# Altium footprint library PcbLib_Lenobitech.PcbLib: 14 footprints
Each footprint in its own frame and in the unit in brackets; x right, y up, seen from the top. Pads: shape width x height; smd on the part's side, far side on the other; paste and mask are expansions set on the pad; w line width, h text height; cw(c..) or ccw(c..) is an arc to the next point about the centre after c.
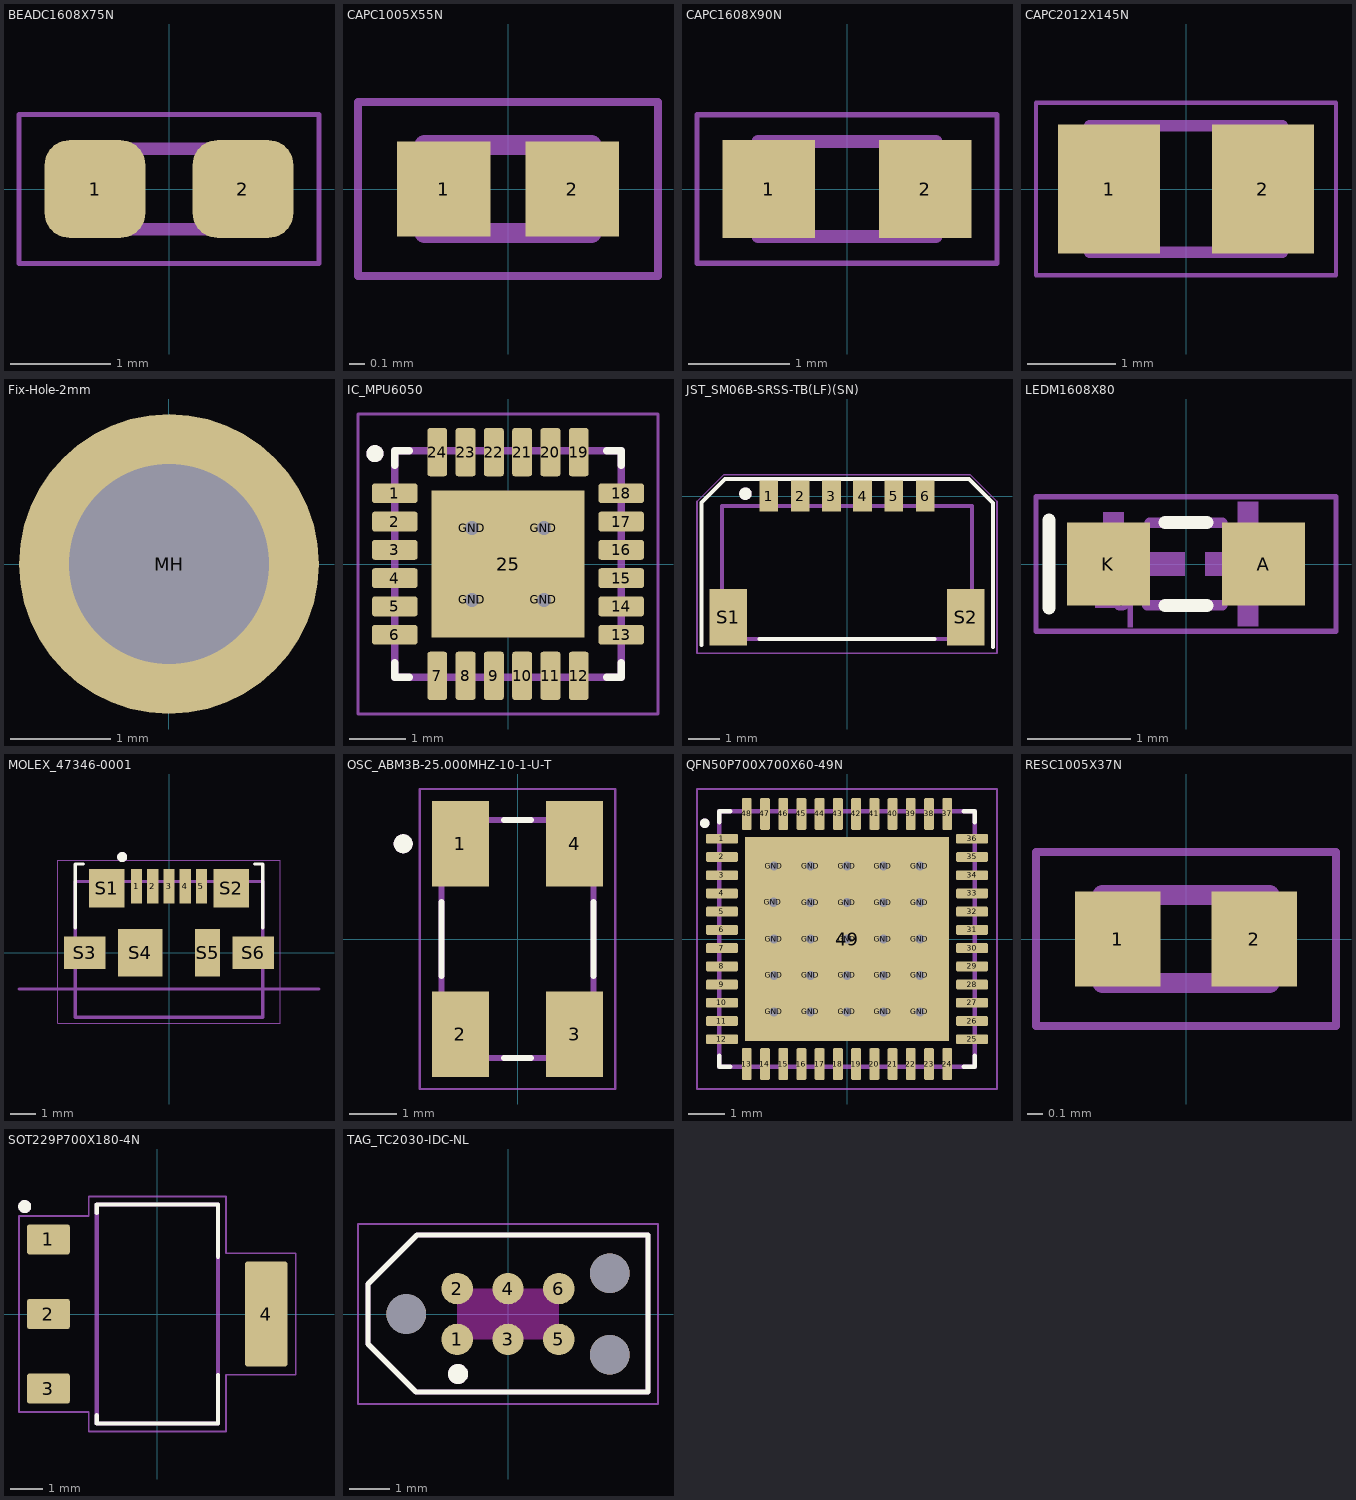
[diagram p0: the footprints below, top view; thin cyan lines are the x and y axes]

## BEADC1608X75N [mm]
pads (2):
  rrect50% 1x0.97 smd: 1(-0.735,0) 2(0.735,0)
Mechanical 13:
  lines w0.127: -0.8,-0.4 0.8,-0.4 0.8,0.4 -0.8,0.4 -0.8,-0.4
Mechanical 15:
  lines w0.05: -1.49,-0.74 1.49,-0.74 1.49,0.74 -1.49,0.74 -1.49,-0.74
3D body "step_temp.STEP": height 0.95, standoff 0, extent -0.8,-0.4 0.8,0.4

## CAPC1005X55N [mm]
pads (2):
  rect 0.59x0.6 smd: 1(-0.407,0) 2(0.407,0)
Mechanical 13:
  lines w0.127: -0.53,-0.28 -0.53,0.28 0.53,0.28 0.53,-0.28 -0.53,-0.28
Mechanical 15:
  lines w0.05: -0.95,-0.55 -0.95,0.55 0.95,0.55 0.95,-0.55 -0.95,-0.55
3D body "C0402C104K4RAC7411.STEP": height 0.51, standoff 0.01, extent -0.508,-0.275 0.492,0.275

## CAPC1608X90N [mm]
pads (2):
  rect 0.92x0.97 smd: 1(-0.775,0) 2(0.775,0)
Mechanical 13:
  lines w0.127: -0.88,-0.47 -0.88,0.47 0.88,0.47 0.88,-0.47 -0.88,-0.47
Mechanical 15:
  lines w0.05: -1.485,-0.735 -1.485,0.735 1.485,0.735 1.485,-0.735 -1.485,-0.735
3D body "C0603C225K4PACTU.STEP": height 0.81, standoff 0.01, extent -0.838,-0.475 0.762,0.475

## CAPC2012X145N [mm]
pads (2):
  rect 1.16x1.47 smd: 1(-0.875,0) 2(0.875,0)
Mechanical 13:
  lines w0.127: -1.1,-0.72 -1.1,0.72 1.1,0.72 1.1,-0.72 -1.1,-0.72
Mechanical 15:
  lines w0.05: -1.708,-0.983 -1.708,0.983 1.708,0.983 1.708,-0.983 -1.708,-0.983
3D body "C0805C226M8PAC7800.STEP": height 1.26, standoff 0.01, extent -1,-0.725 1,0.725

## Fix-Hole-2mm [mm]
pads (1):
  round 3 hole 2 mask+0.076: MH(0,0)
Bottom Solder:
  circle w0.5: c0,0 r1.25

## IC_MPU6050 [mm]
pads (29):
  rrect25% 0.8x0.35 smd: 1(-2,1.25) 2(-2,0.75) 3(-2,0.25) 4(-2,-0.25) 5(-2,-0.75) 6(-2,-1.25) 13(2,-1.25) 14(2,-0.75) 15(2,-0.25) 16(2,0.25) 17(2,0.75) 18(2,1.25)
  rrect25% 0.35x0.85 smd: 7(-1.25,-1.975) 8(-0.75,-1.975) 9(-0.25,-1.975) 10(0.25,-1.975) 11(0.75,-1.975) 12(1.25,-1.975) 19(1.25,1.975) 20(0.75,1.975) 21(0.25,1.975) 22(-0.25,1.975) 23(-0.75,1.975) 24(-1.25,1.975)
  rect 2.7x2.6 smd paste-2: 25(0,0)
  round 0.5 hole 0.254: GND(-0.635,-0.635) GND(-0.635,0.635) GND(0.635,-0.635) GND(0.635,0.635)
Top Overlay:
  circle w0.2: c-2.35,1.95 r0.05
  lines w0.127: -2,-1.739 -2,-2 -1.739,-2 ; -2,1.739 -2,2 -1.739,2 ; 1.739,-2 2,-2 2,-1.739 ; 1.739,2 2,2 2,1.739
Top Paste:
  region: 0.854,-0.822 -0.854,-0.822 -0.854,0.822 0.854,0.822
Mechanical 13:
  circle w0.2: c-2.35,1.95 r0.05
  lines w0.127: -2,-2 -2,2 2,2 2,-2 -2,-2
Mechanical 15:
  lines w0.05: -2.65,-2.65 -2.65,2.65 2.65,2.65 2.65,-2.65 -2.65,-2.65
3D body "MPU6050.STEP": height 0.94, standoff -0.01, extent -2,-2 2,2

## JST_SM06B-SRSS-TB(LF)(SN) [mm]
pads (8):
  rect 0.6x1 smd: 1(-2.5,0) 2(-1.5,0) 3(-0.5,0) 4(0.5,0) 5(1.5,0) 6(2.5,0)
  rect 1.2x1.8 smd: S1(-3.8,-3.875) S2(3.8,-3.875)
Top Overlay:
  circle w0.2: c-3.25,0.075 r0.1
  lines w0.127: -4.65,-4.775 -4.65,-0.2 -3.9,0.55 3.9,0.55 4.65,-0.2 ; -2.8,-4.575 2.8,-4.575 ; 4.675,-4.825 4.675,-0.225
Mechanical 13:
  circle w0.2: c-3.25,0.075 r0.1
  lines w0.127: -4,-4.575 -4,-0.325 4,-0.325 4,-4.575 -4,-4.575
Mechanical 15:
  lines w0.05: -4.8,-5.025 4.8,-5.025 4.8,-0.175 3.95,0.675 -3.95,0.675 -4.8,-0.175 -4.8,-5.025
3D body "SM06B-SRSS-TB-LF--SN---3DModel-STEP-56544.STEP": height 2.91, standoff -0.04, extent -4,-4.725 4,0.225

## LEDM1608X80 [mm]
pads (2):
  rect 0.8x0.8 smd: A(0.75,0) K(-0.75,0)
Top Overlay:
  lines w0.127: -1.325,-0.425 -1.325,0.425 ; -0.2,-0.4 0.2,-0.4 ; -0.2,0.4 0.2,0.4
Mechanical 13:
  circle w0.051: c-0.625,-0.35 r0.075
  region: -0.675,-0.425 -0.875,-0.425 -0.875,-0.275 -0.675,-0.275
  region: -0.55,-0.275 -0.6,-0.275 -0.6,-0.225 -0.55,-0.225
  region: -0.513,-0.613 -0.563,-0.613 -0.563,-0.238 -0.513,-0.238
  region: -0.6,0.2 -0.8,0.2 -0.8,0.5 -0.6,0.5
  region: -0.012,-0.112 -0.913,-0.112 -0.913,0.112 -0.012,0.112
  region: 0.7,-0.6 0.5,-0.6 0.5,-0.1 0.7,-0.1
  region: 0.7,0.1 0.5,0.1 0.5,0.6 0.7,0.6
  region: 0.737,-0.112 0.188,-0.112 0.188,0.112 0.737,0.112
  region: 0.65,-0.275 0.55,-0.275 0.55,-0.175 0.65,-0.175
  region: 0.65,0.175 0.55,0.175 0.55,0.275 0.65,0.275
  lines w0.051: 0.825,-0.275 cw(c0.825,0) 0.825,0.275
  lines w0.102: -0.8,-0.3 ccw(c-0.826,0) -0.8,0.3 ; -0.375,-0.4 0.35,-0.4 ; -0.35,0.4 0.35,0.4
Mechanical 15:
  lines w0.05: -1.45,-0.65 1.45,-0.65 1.45,0.65 -1.45,0.65 -1.45,-0.65
3D body "HSMS-C190.STEP": height 1.01, standoff 0.01, extent -0.8,-0.3 0.8,0.3

## MOLEX_47346-0001 [mm]
pads (11):
  rect 0.45x1.38 smd: 1(-1.3,2.66) 2(-0.65,2.66) 3(0,2.66) 4(0.65,2.66) 5(1.3,2.66)
  rect 1.425x1.55 smd: S1(-2.488,2.575) S2(2.488,2.575)
  rect 1.65x1.3 smd: S3(-3.375,0) S6(3.375,0)
  rect 1.8x1.9 smd: S4(-1.15,0)
  rect 1x1.9 smd: S5(1.55,0)
Top Overlay:
  circle w0.2: c-1.875,3.825 r0.1
  lines w0.127: -3.75,1 -3.75,3.55 -3.425,3.55 ; 3.425,3.55 3.75,3.55 3.75,1
Mechanical 13:
  circle w0.2: c-1.875,3.825 r0.1
  lines w0.127: -6,-1.45 6,-1.45 ; -3.75,-2.58 -3.75,2.85 3.75,2.85 3.75,-2.58 -3.75,-2.58
  text "PCB EDGE" at 4.5,-1.25 h0.41
Mechanical 15:
  lines w0.05: -4.45,-2.83 -4.45,3.7 4.45,3.7 4.45,-2.83 -4.45,-2.83
3D body "47346-0001--3DModel-STEP-1.STEP": height 2.7, standoff -0.25, extent -4.18,-2.53 4.18,2.9

## OSC_ABM3B-25.000MHZ-10-1-U-T [mm]
pads (4):
  rect 1.2x1.8 smd: 1(-1.2,2) 2(-1.2,-2) 3(1.2,-2) 4(1.2,2)
Top Overlay:
  circle w0.2: c-2.4,2 r0.1
  lines w0.127: -1.6,-0.78 -1.6,0.78 ; -0.28,-2.5 0.28,-2.5 ; -0.28,2.5 0.28,2.5 ; 1.6,-0.78 1.6,0.78
Mechanical 13:
  circle w0.2: c-2.4,2 r0.1
  lines w0.127: -1.6,-2.5 1.6,-2.5 1.6,2.5 -1.6,2.5 -1.6,-2.5
Mechanical 15:
  lines w0.05: -2.05,-3.15 2.05,-3.15 2.05,3.15 -2.05,3.15 -2.05,-3.15
3D body "ABM3B-25.000MHZ-10-1-U-T.STEP": height 1.1, standoff 0, extent -1.6,-2.5 1.6,2.5

## QFN50P700X700X60-49N [mm]
pads (74):
  rrect25% 0.87x0.27 smd: 1(-3.43,2.75) 2(-3.43,2.25) 3(-3.43,1.75) 4(-3.43,1.25) 5(-3.43,0.75) 6(-3.43,0.25) 7(-3.43,-0.25) 8(-3.43,-0.75) 9(-3.43,-1.25) 10(-3.43,-1.75) 11(-3.43,-2.25) 12(-3.43,-2.75) 25(3.43,-2.75) 26(3.43,-2.25) 27(3.43,-1.75) 28(3.43,-1.25) 29(3.43,-0.75) 30(3.43,-0.25) 31(3.43,0.25) 32(3.43,0.75) 33(3.43,1.25) 34(3.43,1.75) 35(3.43,2.25) 36(3.43,2.75)
  rrect25% 0.27x0.87 smd: 13(-2.75,-3.43) 14(-2.25,-3.43) 15(-1.75,-3.43) 16(-1.25,-3.43) 17(-0.75,-3.43) 18(-0.25,-3.43) 19(0.25,-3.43) 20(0.75,-3.43) 21(1.25,-3.43) 22(1.75,-3.43) 23(2.25,-3.43) 24(2.75,-3.43) 37(2.75,3.43) 38(2.25,3.43) 39(1.75,3.43) 40(1.25,3.43) 41(0.75,3.43) 42(0.25,3.43) 43(-0.25,3.43) 44(-0.75,3.43) 45(-1.25,3.43) 46(-1.75,3.43) 47(-2.25,3.43) 48(-2.75,3.43)
  rect 5.6x5.6 smd paste-4: 49(0,0)
  round 0.5 hole 0.254: GND(-2.018,1.008) GND(-2,-2) GND(-2,-1) GND(-2,0) GND(-2,2) GND(-1,-2) GND(-1,-1) GND(-1,0) GND(-1,1) GND(-1,2) GND(0,-2) GND(0,-1) GND(0,0) GND(0,1) GND(0,2) GND(1,-2) GND(1,-1) GND(1,0) GND(1,1) GND(1,2) GND(2,-2) GND(2,-1) GND(2,0) GND(2,1) GND(2,2)
Top Overlay:
  circle w0.2: c-3.9,3.175 r0.03
  lines w0.127: -3.5,-3.205 -3.5,-3.5 -3.205,-3.5 ; -3.5,3.205 -3.5,3.5 -3.205,3.5 ; 3.205,-3.5 3.5,-3.5 3.5,-3.205 ; 3.205,3.5 3.5,3.5 3.5,3.205
Top Paste:
  region: 2.29,-2.29 0.51,-2.29 0.51,-0.51 2.29,-0.51
  region: -0.51,-2.29 -2.29,-2.29 -2.29,-0.51 -0.51,-0.51
  region: 2.29,0.51 0.51,0.51 0.51,2.29 2.29,2.29
  region: -0.51,0.51 -2.29,0.51 -2.29,2.29 -0.51,2.29
Mechanical 13:
  circle w0.2: c-3.9,3.175 r0.03
  lines w0.127: -3.5,-3.5 -3.5,3.5 3.5,3.5 3.5,-3.5 -3.5,-3.5
Mechanical 15:
  lines w0.05: -4.115,-4.115 -4.115,4.115 4.115,4.115 4.115,-4.115 -4.115,-4.115
3D body "STM32F411CEU6--3DModel-STEP-56544.STEP": height 0.6, standoff 0, extent -3.5,-3.5 3.5,3.5

## RESC1005X37N [mm]
pads (2):
  rect 0.54x0.6 smd: 1(-0.432,0) 2(0.432,0)
Mechanical 13:
  lines w0.127: -0.53,-0.28 0.53,-0.28 0.53,0.28 -0.53,0.28 -0.53,-0.28
Mechanical 15:
  lines w0.05: -0.95,-0.55 0.95,-0.55 0.95,0.55 -0.95,0.55 -0.95,-0.55
3D body "AC0402JR-0710KL.STEP": height 0.38, standoff 0.01, extent -0.5,-0.25 0.5,0.25

## SOT229P700X180-4N [mm]
pads (4):
  rrect15% 1.31x0.93 smd: 1(-3.345,2.29) 2(-3.345,0) 3(-3.345,-2.29)
  rrect15% 1.31x3.24 smd: 4(3.345,0)
Top Overlay:
  circle w0.2: c-4.075,3.3 r0.1
  lines w0.127: -1.86,-3.11 -1.86,-3.36 1.86,-3.36 1.86,-1.87 ; -1.86,3.1 -1.86,3.36 1.86,3.36 1.86,1.76
Mechanical 13:
  circle w0.2: c-4.075,3.3 r0.1
  lines w0.127: -1.86,-3.36 1.86,-3.36 1.86,3.36 -1.86,3.36 -1.86,-3.36
Mechanical 15:
  lines w0.05: -4.25,-3.01 -4.25,3.01 -2.11,3.01 -2.11,3.61 2.11,3.61 2.11,1.87 4.25,1.87 4.25,-1.87 2.11,-1.87 2.11,-3.61 -2.11,-3.61 -2.11,-3.01 -4.25,-3.01
3D body "AMS1117.STEP": height 1.8, standoff 0, extent -3.499,-3.251 3.499,3.251

## TAG_TC2030-IDC-NL [mil]
pads (9):
  round 30.98 smd paste-39.37: 1(-50,-25) 2(-50,25) 3(0,-25) 4(0,25) 5(50,-25) 6(50,25)
  round 39.02 hole 39.02 unplated: ""(-100,0) ""(100,-40) ""(100,40)
Top Overlay:
  circle w11.81: c-49.21,-59.06 r3.94
  lines w5: -137.8,-29.53 -137.8,29.53 -89.57,77.76 137.8,77.76 137.8,-76.77 -90.55,-76.77 -137.8,-29.53
Keep-Out Layer:
  region: 50,-25.03 -50.06,-25.03 -50.06,25 50,25
Mechanical 13:
  circle w11.81: c-49.21,-59.06 r3.94
  lines w5: -137.8,-29.53 -90.55,-76.77 137.8,-76.77 137.8,77.76 -89.57,77.76 -137.8,29.53 -137.8,-29.53
Mechanical 15:
  lines w1.97: -147.64,-88.58 -147.64,88.58 147.64,88.58 147.64,-88.58 -147.64,-88.58